# Altium footprint library Power Connectors.PcbLib: 1 footprints
Each footprint in its own frame and in the unit in brackets; x right, y up, seen from the top. Pads: shape width x height; smd on the part's side, far side on the other; paste and mask are expansions set on the pad; w line width, h text height; cw(c..) or ccw(c..) is an arc to the next point about the centre after c.
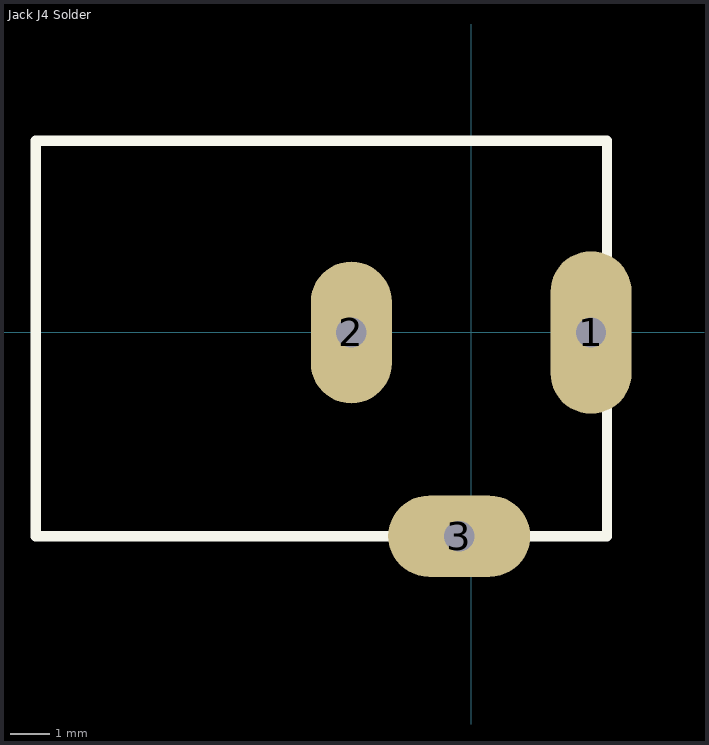
[diagram p0: the footprint, top view; thin cyan lines are the x and y axes]

## Jack J4 Solder [mil] "Power Barrel Connector Jack 2.10mm ID (0.083\"), 5.50mm OD (0.217\") Through Hole, Right Angle"
pads (3):
  oval 80x160 hole 30 square: 1(118.11,0)
  oval 80x140 hole 30 square: 2(-118.11,0)
  oval 140x80 hole 30 square: 3(-11.81,-200.79)
Top Overlay:
  lines w10: -429.13,-200.79 -429.13,188.98 -401.57,188.98 133.86,188.98 133.86,-200.79 -429.13,-200.79
3D body "PCM DC Power Jack 2mm Pin.STEP": height 448.07, standoff -185.79, extent -432.25,-204.75 138.61,181.08